# Altium footprint library PCB - ANTENNA - LINX ANT-LTE-CER-T.PCBLIB: 1 footprints
Each footprint in its own frame and in the unit in brackets; x right, y up, seen from the top. Pads: shape width x height; smd on the part's side, far side on the other; paste and mask are expansions set on the pad; w line width, h text height; cw(c..) or ccw(c..) is an arc to the next point about the centre after c.
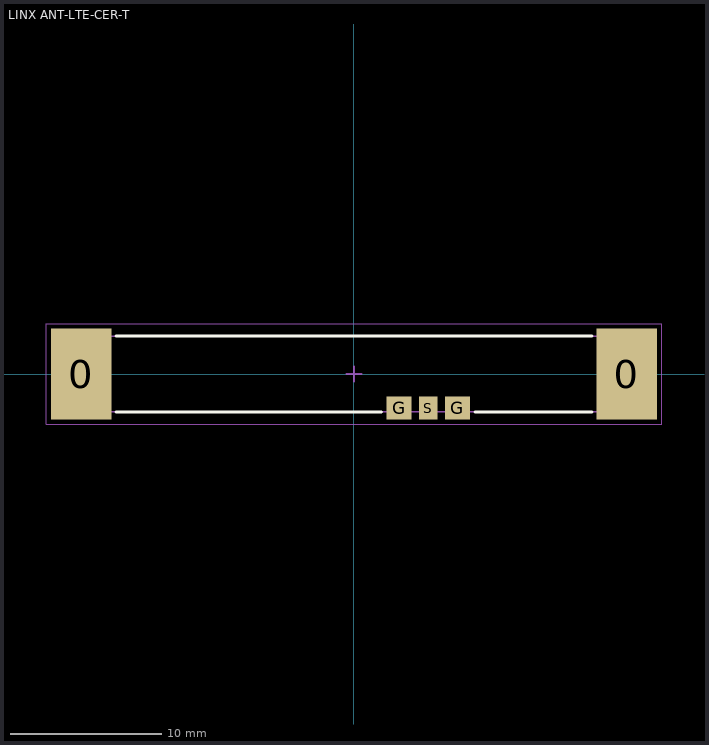
[diagram p0: the footprint, top view; thin cyan lines are the x and y axes]

## LINX ANT-LTE-CER-T [mm] "Antenna, 5-leads, Body 37x5x5mm,  IPC Medium Density"
height 5
pads (5):
  rect 4x6 smd: 0(-18,0) 0(18,0)
  rect 1.65x1.5 smd: G(2.975,-2.25) G(6.825,-2.25)
  rect 1.2x1.5 smd: S(4.9,-2.25)
Top Overlay:
  lines w0.2: -15.7,-2.5 1.8,-2.5 ; -15.7,2.5 15.7,2.5 ; 8,-2.5 15.7,-2.5
Mechanical 13:
  lines w0.1: -18.5,-2.5 18.5,-2.5 18.5,2.5 -18.5,2.5 -18.5,-2.5
Mechanical 15:
  lines w0.05: -20.3,-3.3 -20.3,3.3 20.3,3.3 20.3,-3.3 -20.3,-3.3
  lines w0.1: -0.5,0 0.5,0 ; 0,-0.5 0,0.5
3D body "Linx - ANT-LTE-CER-T.step": height 5.16, standoff 0, extent -18.5,-2.5 18.5,2.5